# Altium schematic symbol library 2EDF7275KXUMA1.SchLib: 2 symbols
Pins are listed as number, name and electrical type; pins without a type are passive.

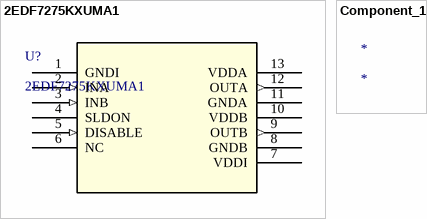
[diagram p0: symbols 2EDF7275KXUMA1 to Component_1]

## 2EDF7275KXUMA1
designator U?
No Description Available; Mfr_Name: Infineon; Copyright: Copyright (C) 2022 Ultra Librarian. All rights reserved.; Manufacturer_Part_Number: 2EDF7275KXUMA1; Digi-Key_Part_Number_1: 2EDF7275KXUMA1TR-ND; Digi-Key_Part_Number_2: 2EDF7275KXUMA1CT-ND; Digi-Key_Part_Number_3: 2EDF7275KXUMA1DKR-ND; RefDes: RefDes; Type: DEV
footprint PG-TFLGA-13-1_INF
pins: 1 GNDI, 2 INA (in), 3 INB (in), 4 SLDON (power), 5 DISABLE (in), 6 NC, 7 VDDI (power), 8 GNDB, 9 OUTB (out), 10 VDDB (power), 11 GNDA, 12 OUTA (out), 13 VDDA (power)

## Component_1
designator *